# Altium footprint library PcbLib1.PcbLib: 25 footprints (part 1 of 2)
Each footprint in its own frame and in the unit in brackets; x right, y up, seen from the top. Pads: shape width x height; smd on the part's side, far side on the other; paste and mask are expansions set on the pad; w line width, h text height; cw(c..) or ccw(c..) is an arc to the next point about the centre after c.
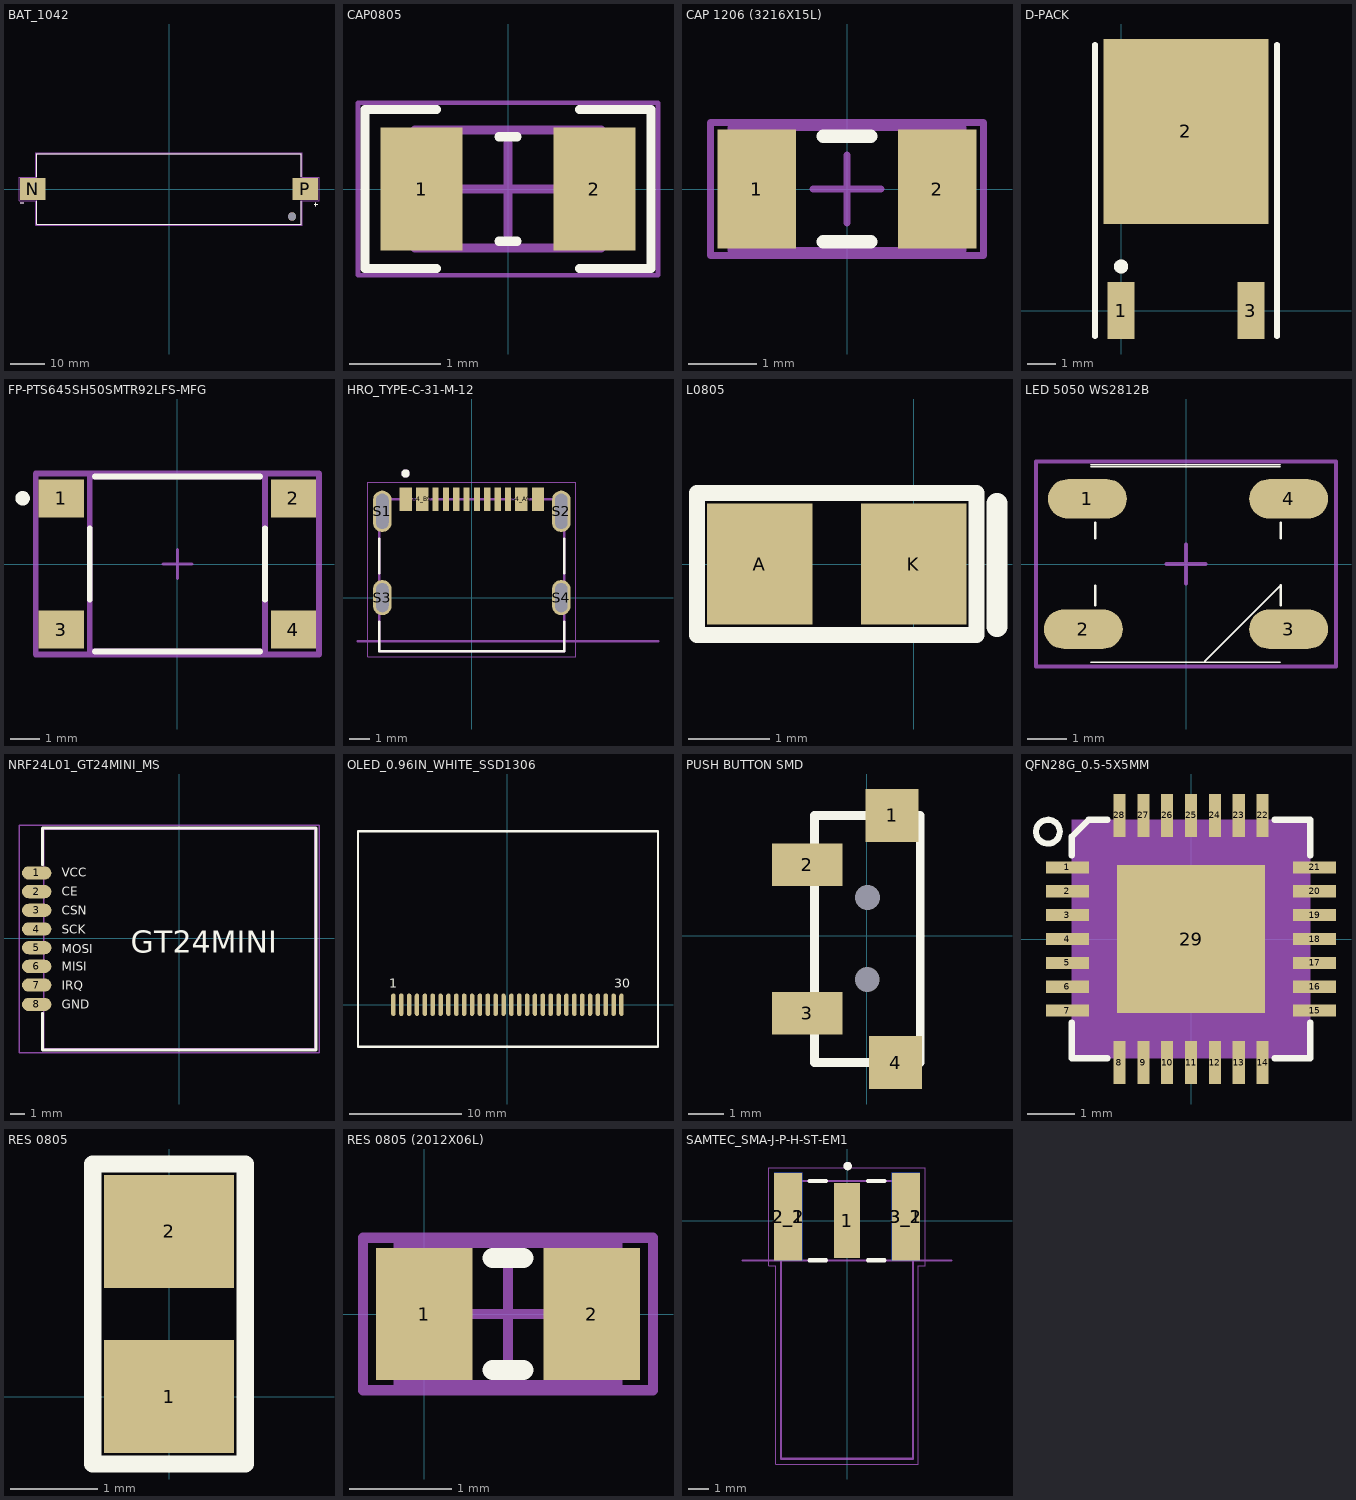
[diagram p0: the footprints below, top view; thin cyan lines are the x and y axes]

## BAT_1042 [mm]
height 15.11
pads (5):
  rect 7.46x6.47 smd: N(-39.67,0) P(39.67,0)
  round 0 all layers, no hole mask+0: ""(-27.6,-8)
  round 0 all layers, no hole: ""(27.6,8)
  round 2.39 hole 2.39 unplated: ""(35.82,-8)
Top Overlay:
  lines w0.127: -43.25,-4 -42.25,-4 ; -38.525,-3.55 -38.525,-10.325 38.525,-10.325 38.525,-3.55 ; -38.525,3.55 -38.525,10.325 38.525,10.325 38.525,3.55 ; 42.25,-4.5 43.25,-4.5 ; 42.75,-5 42.75,-4
Mechanical 13:
  lines w0.127: -43.25,-4 -42.25,-4 ; 42.25,-4.5 43.25,-4.5 ; 42.75,-5 42.75,-4 ; -38.525,-10.325 -38.525,10.325 38.525,10.325 38.525,-10.325 -38.525,-10.325
Mechanical 15:
  lines w0.05: -43.65,-3.485 -43.65,3.485 -38.775,3.485 -38.775,10.575 38.775,10.575 38.775,3.485 43.65,3.485 43.65,-3.485 38.775,-3.485 38.775,-10.575 -38.775,-10.575 -38.775,-3.485 -43.65,-3.485
3D body "step_temp.STEP": height 14.86, standoff -3.43, extent -43.231,-10.325 43.231,10.325

## CAP0805 [mm] "Chip Capacitor, 2-Leads, Body 2/00x1/25mm, IPC Medium Density DESIGNER:ABBAS BASEREH"
height 0.5
pads (2):
  rect 0.9x1.35 smd: 1(-0.95,0) 2(0.95,0)
Top Overlay:
  lines w0.1: -0.788,-0.875 -1.575,-0.875 -1.575,0.875 -0.788,0.875 ; -0.1,-0.575 0.1,-0.575 ; -0.1,0.575 0.1,0.575 ; 0.788,-0.875 1.575,-0.875 1.575,0.875 0.788,0.875
Mechanical 13:
  lines w0.1: -1.025,-0.65 -1.025,0.65 1.025,0.65 1.025,-0.65 -1.025,-0.65
Mechanical 15:
  lines w0.05: -1.65,-0.95 -1.65,0.95 1.65,0.95 1.65,-0.95 -1.65,-0.95
  lines w0.1: -0.5,0 0.5,0 ; 0,-0.5 0,0.5
3D body "CAP0805.step": height 0.5, standoff 0, extent -1.025,-0.65 1.025,0.65

## CAP 1206 (3216X15L) [mm] "Chip Capacitor, 2-Leads, Body 3.2x1.6mm, IPC High Density"
height 1.52
pads (2):
  rect 1.15x1.75 smd: 1(-1.325,0) 2(1.325,0)
Top Overlay:
  lines w0.2: -0.35,-0.775 0.35,-0.775 ; -0.35,0.775 0.35,0.775
Mechanical 13:
  lines w0.1: -1.7,-0.9 -1.7,0.9 1.7,0.9 1.7,-0.9 -1.7,-0.9
Mechanical 15:
  lines w0.1: -0.5,0 0.5,0 ; 0,-0.5 0,0.5 ; -2,-0.975 -2,0.975 2,0.975 2,-0.975 -2,-0.975
3D body "1206 cap.STEP": height 1, standoff 0, extent -1.6,-0.8 1.6,0.8

## D-PACK [mm] "D-PACK"
height 5
pads (3):
  rect 0.95x2 smd: 1(0,0) 3(4.57,0)
  rect 5.8x6.5 smd: 2(2.285,6.3)
Top Overlay:
  circle w0.25: c0,1.55 r0.125
  lines w0.2: -0.915,-0.9 -0.915,9.35 ; 5.485,-0.9 5.485,9.35
3D body "User Library-TO252AA.STEP": height 2.3, standoff -0.01, extent -1.025,-0.45 5.555,9.25

## FP-PTS645SH50SMTR92LFS-MFG [mm]
pads (4):
  rect 1.55x1.3 smd paste+0 mask+0: 1(-3.975,2.25) 2(3.975,2.25) 3(-3.975,-2.25) 4(3.975,-2.25)
Top Overlay:
  circle w0.25: c-5.3,2.25 r0.125
  lines w0.2: -3,-1.225 -3,1.225 ; -2.825,-3 2.825,-3 ; -2.825,3 2.825,3 ; 3,-1.225 3,1.225
Top Courtyard:
  lines w0.2: -4.85,-3.1 4.85,-3.1 4.85,3.1 -4.85,3.1 -4.85,-3.1
Top 3D Body:
  lines w0.2: -3,-3 -3,3 3,3 3,-3 -3,-3
Top Assembly:
  lines w0.2: -4.85,-3.1 4.85,-3.1 4.85,3.1 -4.85,3.1 -4.85,-3.1
  text ".Designator" at 0,0.188 h1
Top Component Center:
  lines w0.1: -0.5,0 0.5,0 ; 0,-0.5 0,0.5
3D body "User Library-PTS645  switch.STEP": height 4.4, standoff 0, extent -4.5,-3 4.5,3

## HRO_TYPE-C-31-M-12 [mm]
height 3.26
pads (16):
  rect 0.6x1.14 smd mask+0.05: A1_B12(-3.2,4.75) A4_B9(-2.4,4.75) B1_A12(3.2,4.75) B4_A9(2.4,4.75)
  rect 0.3x1.14 smd mask+0.05: A5(-1.25,4.75) A6(-0.25,4.75) A7(0.25,4.75) A8(1.25,4.75) B5(1.75,4.75) B6(0.75,4.75) B7(-0.75,4.75) B8(-1.75,4.75)
  oval 0.9x2 hole 0.6 slot 1.7 at 90 deg: S1(-4.325,4.17) S2(4.325,4.17)
  oval 0.9x1.7 hole 0.6 slot 1.4 at 90 deg: S3(-4.325,0) S4(4.325,0)
Top Overlay:
  circle w0.2: c-3.2,6 r0.1
  lines w0.127: -4.47,-1.17 -4.47,-2.6 4.47,-2.6 4.47,-1.17 ; -4.47,1.17 -4.47,2.85 ; 4.47,1.17 4.47,2.85
Mechanical 13:
  circle w0.2: c-3.2,6 r0.1
  lines w0.127: -5.5,-2.11 9,-2.11 ; -4.47,-2.6 4.47,-2.6 4.47,4.75 -4.47,4.75 -4.47,-2.6
  text "PCB EDGE" at 5.2,-1.9 h0.61
Mechanical 15:
  lines w0.05: -5.025,-2.85 -5.025,5.57 5.025,5.57 5.025,-2.85 -5.025,-2.85
3D body "step_temp.STEP": height 3.31, standoff -0.99, extent -4.47,-2.6 4.47,5.305

## L0805 [mm] "Body 2.0x1.3mm, IPC High Density"
height 1.4
pads (2):
  rect 1.3x1.5 smd: A(-1.9,0) K(0,0)
Top Overlay:
  lines w0.2: -2.675,-0.875 -2.675,0.875 0.775,0.875 0.775,-0.875 -2.675,-0.875
  lines w0.254: 1.029,-0.776 1.029,0.748
3D body "WL-SMCW_0805_LED.stp": height 0.68, standoff -0.02, extent -1.95,-0.625 0.05,0.625

## LED 5050 WS2812B [mm]
height 1.6
pads (4):
  oval 2x1 smd: 1(-2.5,1.65) 2(-2.6,-1.65) 3(2.6,-1.65) 4(2.6,1.65)
Top Overlay:
  lines w0.04: -2.41,-2.486 1.691,-2.486 2.39,-2.486 ; -2.41,2.464 2.39,2.464 ; -2.41,2.514 2.39,2.514 ; 0.475,-2.461 2.4,-0.536
  lines w0.06: -2.3,-1.05 -2.3,-0.55 ; -2.3,0.65 -2.3,1.05 ; 2.4,-1.05 2.4,-0.536 ; 2.4,0.65 2.4,1.05
Mechanical 15:
  lines w0.1: -0.5,0 0.5,0 ; 0,-0.5 0,0.5 ; -3.8,-2.6 3.8,-2.6 3.8,2.6 -3.8,2.6 -3.8,-2.6
3D body "User Library-ws2812B-1.STEP": height 1.6, standoff 0.03, extent -2.74,-2.49 2.66,2.51

## NRF24L01_GT24MINI_MS [mm] "2.4GHz Transceiver MODULE, SMD"
height 1.35
pads (8):
  oval 2x0.9 smd mask+0.1: 1(-9.7,4.44) 2(-9.7,3.17) 3(-9.7,1.9) 4(-9.7,0.63) 5(-9.7,-0.64) 6(-9.7,-1.91) 7(-9.7,-3.18) 8(-9.7,-4.5)
Top Overlay:
  lines w0.2: -9.3,-5.1 -9.3,-7.6 9.3,-7.6 9.3,7.5 -9.3,7.5 -9.3,5
  text "VCC" at -8,4.195 h0.6
  text "CE" at -8,2.895 h0.6
  text "CSN" at -8,1.595 h0.6
  text "SCK" at -8,0.295 h0.6
  text "MOSI" at -8,-1.005 h0.6
  text "MISI" at -8,-2.205 h0.6
  text "IRQ" at -8,-3.505 h0.6
  text "GND" at -8,-4.805 h0.6
  text "GT24MINI" at -3.3,-1 h1.5
Mechanical 1:
  lines w0.1: -9.2,-7.5 9.2,-7.5 9.2,7.4 -9.2,7.4 -9.2,-7.5
Mechanical 15:
  lines w0.1: -10.9,-7.8 -10.9,7.7 9.5,7.7 9.5,-7.8 -10.9,-7.8
3D body "NRF24L01_GT24MINI_MS.STEP": height 1, standoff 0, extent -9.2,-7.5 9.2,7.4
3D body "Ceramic_Capacitor_0402_h20mil_Solder.step": height 1.53, standoff 1, extent 6.7,-2.325 8.3,-1.675
3D body "Ceramic_Capacitor_0402_h20mil_Solder.step": height 1.53, standoff 1, extent 7.675,1.7 8.325,3.3
3D body "Ceramic_Capacitor_0402_h20mil_Solder.step": height 1.53, standoff 1, extent 3.475,3.6 4.125,5.2
3D body "Ceramic_Capacitor_0402_h20mil_Solder.step": height 1.53, standoff 1, extent 4.875,3.6 5.525,5.2
3D body "Ceramic_Capacitor_0402_h20mil_Solder.step": height 1.53, standoff 1, extent 6.175,3.6 6.825,5.2
3D body "Ceramic_Capacitor_0402_h20mil_Solder.step": height 1.53, standoff 1, extent 6.6,5.875 8.2,6.525
3D body "Resistor 0402.step": height 1.35, standoff 1, extent -3.7,3.35 -3.2,4.85
3D body "Resistor 0402.step": height 1.35, standoff 1, extent -2.45,-3.3 -0.95,-2.8
3D body "Resistor 0402.step": height 1.35, standoff 1, extent 2.546,-6.35 3.046,-4.85
3D body "Resistor 0402.step": height 1.35, standoff 1, extent 3.546,-6.35 4.046,-4.85
3D body "Resistor 0402.step": height 1.35, standoff 1, extent 3.046,-3.85 3.546,-2.35
3D body "Ceramic_Capacitor_0402_h20mil_Solder.step": height 1.53, standoff 1, extent 0.475,0.1 1.125,1.7
3D body "Ceramic_Capacitor_0402_h20mil_Solder.step": height 1.53, standoff 1, extent -1.025,0.1 -0.375,1.7
3D body "Ceramic_Capacitor_0402_h20mil_Solder.step": height 1.53, standoff 1, extent -0.8,2.275 0.8,2.925
3D body "Ceramic_Capacitor_0402_h20mil_Solder.step": height 1.53, standoff 1, extent -0.8,-1.125 0.8,-0.475
3D body "Ceramic_Capacitor_0402_h20mil_Solder.step": height 1.53, standoff 1, extent 1.475,-3.9 2.125,-2.3
3D body "Ceramic_Capacitor_0402_h20mil_Solder.step": height 1.53, standoff 1, extent -0.025,-3.9 0.625,-2.3
3D body "Ceramic_Capacitor_0402_h20mil_Solder.step": height 1.53, standoff 1, extent -0.025,-6.4 0.625,-4.8
3D body "Ceramic_Capacitor_0402_h20mil_Solder.step": height 1.53, standoff 1, extent -5.025,-5.4 -4.375,-3.8
3D body "Ceramic_Capacitor_0402_h20mil_Solder.step": height 1.53, standoff 1, extent -6,-6.625 -4.4,-5.975
3D body "Ceramic_Capacitor_0402_h20mil_Solder.step": height 1.53, standoff 1, extent -4,5.875 -2.4,6.525
3D body "Ceramic_Capacitor_0402_h20mil_Solder.step": height 1.53, standoff 1, extent -5.025,3.3 -4.375,4.9
3D body "Ceramic_Capacitor_0402_h20mil_Solder.step": height 1.53, standoff 1, extent -6.525,3.3 -5.875,4.9
3D body "Ceramic_Capacitor_0603_h32mil_Solder.step": height 1.82, standoff 1, extent -0.575,4.3 0.575,6.7
3D body "u.Fl Antenna Connector - 523-A-1JB.STEP": height 2.25, standoff 1, extent 5.5,-6.55 8.5,-3.45
3D body "RGT0016C.stp": height 1, standoff 0, extent 3.5,-0.7 6.5,2.3
3D body "QFN40P300X300X60_HS-21N.step": height 1.6, standoff 1, extent -6.21,-1.01 -3.19,2.01
3D body "User Library-SM2520-4.step": height 1.8, standoff 0.97, extent -3.45,-6.6 -0.95,-4.6

## OLED_0.96IN_WHITE_SSD1306 [mm] "OLED, 0.96IN, Monochrome white, SSD1306"
height 1.35
pads (30):
  oval 0.4x2 smd: 1(-10.15,0) 2(-9.45,0) 3(-8.75,0) 4(-8.05,0) 5(-7.35,0) 6(-6.65,0) 7(-5.95,0) 8(-5.25,0) 9(-4.55,0) 10(-3.85,0) 11(-3.15,0) 12(-2.45,0) 13(-1.75,0) 14(-1.05,0) 15(-0.35,0) 16(0.35,0) 17(1.05,0) 18(1.75,0) 19(2.45,0) 20(3.15,0) 21(3.85,0) 22(4.55,0) 23(5.25,0) 24(5.95,0) 25(6.65,0) 26(7.35,0) 27(8.05,0) 28(8.75,0) 29(9.45,0) 30(10.15,0)
Top Overlay:
  lines w0.2: -13.3,-3.75 -13.3,15.45 13.4,15.45 13.4,-3.75 -13.3,-3.75
  text "1" at -10.5,1.5 h0.8
  text "30" at 9.5,1.5 h0.8
3D body "User Library-096OLED.STEP": height 3.82, standoff -0.02, extent -13.35,-6.816 13.35,15.4

## PCBComponent_1 [mm]

## PUSH BUTTON SMD [mm]
height 1.35
pads (6):
  rect 1.5x1.5 smd: 1(0.712,3.405) 4(0.812,-3.595)
  rect 2x1.2 smd: 2(-1.688,2.005) 3(-1.688,-2.195)
  round 0 hole 0.7: ""(0.012,-1.245) ""(0.02,1.079)
Top Overlay:
  lines w0.254: -1.488,-3.595 -1.488,3.405 1.512,3.405 1.512,-3.595 -1.488,-3.595

## QFN28G_0.5-5X5MM [mm]
pads (29):
  rect 0.9x0.254 smd: 1(-2.59,1.5) 2(-2.59,1) 3(-2.59,0.5) 4(-2.59,0) 5(-2.59,-0.5) 6(-2.59,-1) 7(-2.59,-1.5) 15(2.59,-1.5) 16(2.59,-1) 17(2.59,-0.5) 18(2.59,0) 19(2.59,0.5) 20(2.59,1) 21(2.59,1.5)
  rect 0.254x0.9 smd: 8(-1.5,-2.59) 9(-1,-2.59) 10(-0.5,-2.59) 11(0,-2.59) 12(0.5,-2.59) 13(1,-2.59) 14(1.5,-2.59) 22(1.5,2.59) 23(1,2.59) 24(0.5,2.59) 25(0,2.59) 26(-0.5,2.59) 27(-1,2.59) 28(-1.5,2.59)
  rect 3.1x3.1 smd paste-3: 29(0,0)
Top Overlay:
  circle w0.127: c-3,2.25 r0.25
  lines w0.127: -2.5,-1.75 -2.5,-2.5 -1.75,-2.5 ; -2.5,1.75 -2.5,2.146 -2.146,2.5 -1.75,2.5 ; 1.75,-2.5 2.5,-2.5 2.5,-1.75 ; 1.75,2.5 2.5,2.5 2.5,1.75
Top Paste:
  region: 1.5,-1.5 0.25,-1.5 0.25,-0.25 1.5,-0.25
  region: -0.25,-1.502 -1.502,-1.502 -1.502,-0.25 -0.25,-0.25
  region: 1.5,0.25 0.25,0.25 0.25,1.5 1.5,1.5
  region: -0.25,0.25 -1.501,0.25 -1.501,1.5 -0.25,1.5
Mechanical 15:
  region: 2.5,-2.504 -2.504,-2.504 -2.504,2.5 2.5,2.5
3D body "step_temp.STEP": height 1, standoff 0, extent -2.5,-2.5 2.5,2.5

## RES 0805 [mm] "RES 0805"
height 1
pads (2):
  rect 1.5x1.3 smd: 1(0,0) 2(0,1.9)
Top Overlay:
  lines w0.2: -0.875,-0.775 0.875,-0.775 0.875,2.675 -0.875,2.675 -0.875,-0.775
3D body "0805.STEP": height 0.6, standoff 0, extent -0.635,-0.066 0.635,1.966

## RES 0805 (2012X06L) [mm] "Chip Resistor, 2-Leads, Body 2.0x1.3mm, IPC High Density _ (0.100 W)"
height 0.65
pads (2):
  rect 0.95x1.3 smd: 1(0,0) 2(1.65,0)
Top Overlay:
  lines w0.2: 0.675,-0.55 0.975,-0.55 ; 0.675,0.55 0.975,0.55
Mechanical 13:
  lines w0.1: -0.25,-0.7 -0.25,0.7 1.9,0.7 1.9,-0.7 -0.25,-0.7
Mechanical 15:
  lines w0.1: 0.325,0 1.325,0 ; 0.825,-0.5 0.825,0.5 ; -0.6,-0.75 -0.6,0.75 2.25,0.75 2.25,-0.75 -0.6,-0.75
3D body "0805.STEP": height 0.6, standoff 0, extent -0.191,-0.635 1.841,0.635

## SAMTEC_SMA-J-P-H-ST-EM1 [mm]
height 3.675
pads (5):
  rect 1.27x3.6 smd: 1(0,0)
  rect 1.35x4.2 smd: 2_1(-2.825,0.2) 3_1(2.825,0.2)
  rect 1.35x4.2 smd far side: 2_2(-2.825,0.2) 3_2(2.825,0.2)
Top Overlay:
  circle w0.2: c0.03,2.62 r0.1
  lines w0.2: -1.8,-1.9 -1,-1.9 ; -1.8,1.91 -1,1.91 ; 1,-1.9 1.8,-1.9 ; 1,1.91 1.8,1.91
Mechanical 13:
  circle w0.2: c0.03,2.62 r0.1
  lines w0.1: -5,-1.9 -3.165,-1.9 ; 5,-1.9 3.165,-1.9 ; -3.165,-1.9 -3.175,1.91 3.175,1.91 3.165,-1.9 ; -3.165,-1.9 3.165,-1.9 ; -3.165,-1.9 -3.165,-11.42 3.165,-11.42 3.165,-1.9
  text "PCB EDGE" at 4.304,-1.702 h0.61
Mechanical 15:
  lines w0.05: -3.75,-2.15 -3.75,2.55 3.75,2.55 3.75,-2.15 3.415,-2.15 3.415,-11.67 -3.415,-11.67 -3.415,-2.15 -3.75,-2.15
3D body "step_temp.STEP": height 3.55, standoff -2.8, extent -3.175,-11.42 3.175,1.91